# Altium integrated library NSC LDO.IntLib: 1229 symbols (part 21 of 28)
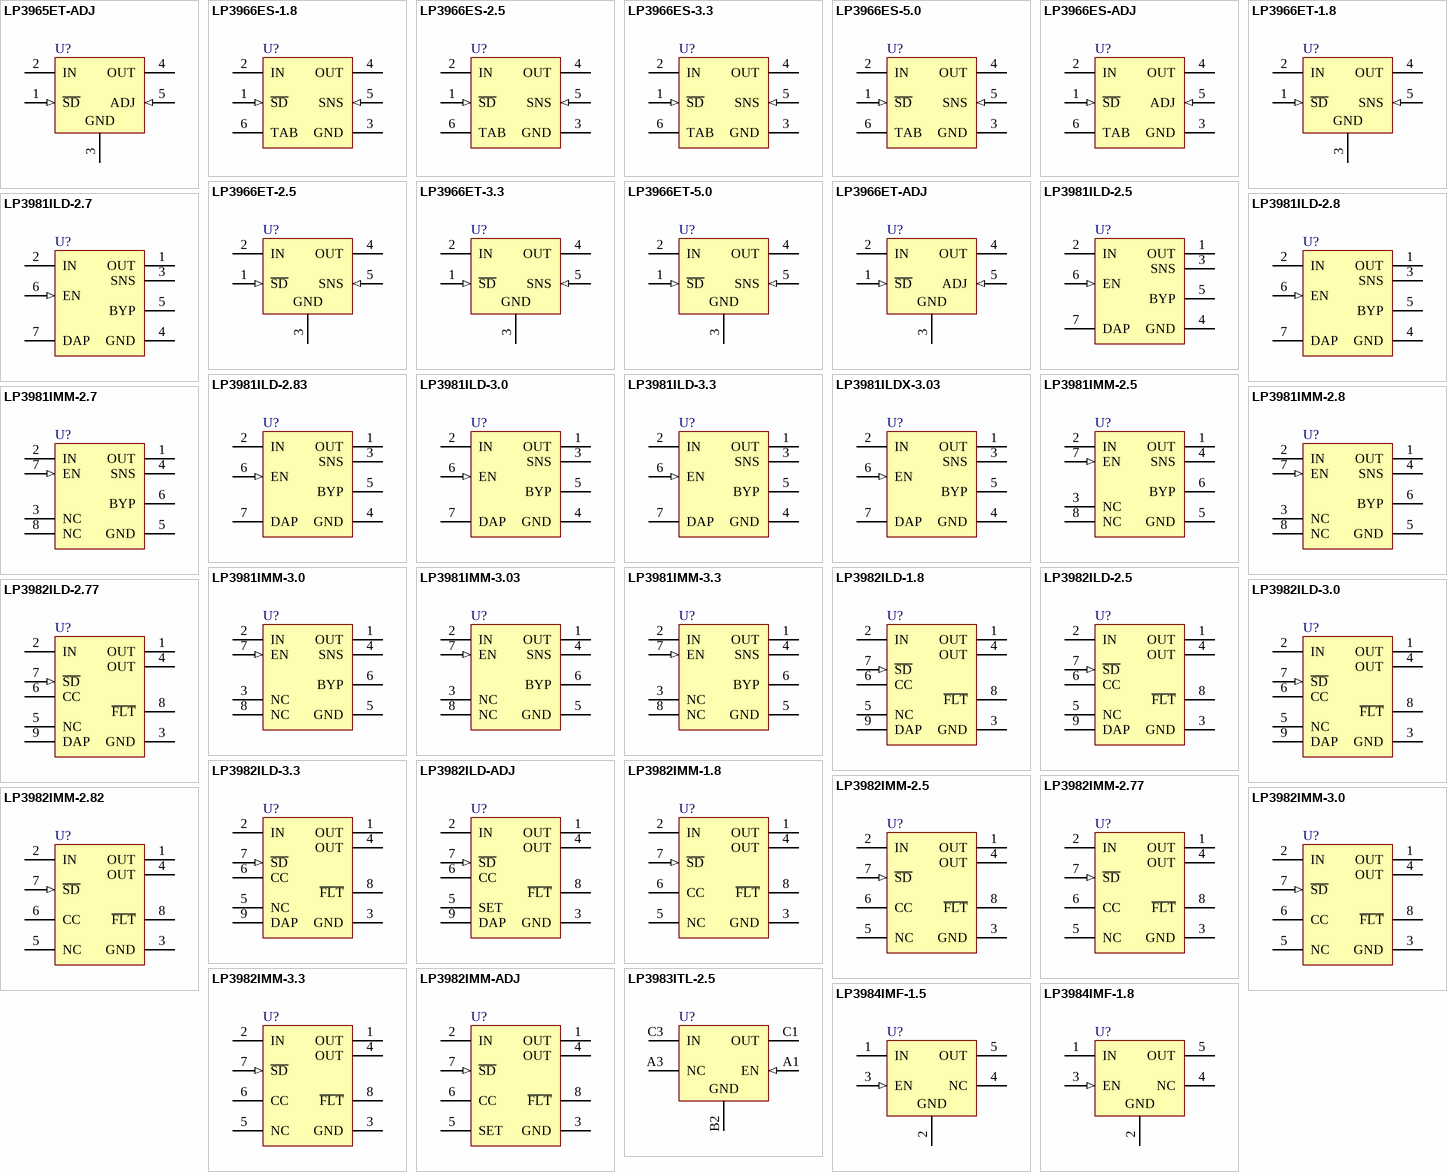
[diagram p51: symbols LP3965ET-ADJ to LP3984IMF-1.8]

## LP3981ILD-3.0
designator U?
Micropower, 300mA Ultra Low-Dropout CMOS Voltage Regulator; PartNumber: LP3981ILD-3.0; Manufacturer: National Semiconductor; CompType: LDO IC; PackageTopMarking: ZXYTT*L017B; PowerWise: N; Published: 4-Dec-2008; DatasheetVersion: Apr-2005; PackageVersion: revB, Nov-2002; PackageReference: LDC06D; Publisher: Altium Limited; PackageDescription: LLP, Plastic, Dual, 3 x 4 x 0.75mm Body, 6 Lead, 0.8mm Pitch; RoHS: Y; PinCount: 6; DigiKeyPartNumber: LP3981ILD-3.0CT-ND; ComponentLink1Description: LP3981 Datasheet; ComponentLink1URL: http://www.national.com/ds/LP/LP3981.pdf; ComponentLink2Description: LP3981 Web Page; ComponentLink2URL: http://www.national.com/pf/LP/LP3981.html; ComponentLink3Description: LDC06D Package Page; ComponentLink3URL: http://www.national.com/packaging/folders/ldc06d.html
footprint LDC06D (PSON, 6-Leads, Body 3x4 mm, Pitch 0.8mm, NSC Recommended)
pins: 1 OUT (power), 2 IN (power), 3 SNS, 4 GND (power), 5 BYP, 6 EN (in), 7 DAP

## LP3981ILD-3.3
designator U?
Micropower, 300mA Ultra Low-Dropout CMOS Voltage Regulator; PartNumber: LP3981ILD-3.3; Manufacturer: National Semiconductor; CompType: LDO IC; PackageTopMarking: ZXYTT*LO1XB; PowerWise: N; Published: 4-Dec-2008; DatasheetVersion: Apr-2005; PackageVersion: revB, Nov-2002; PackageReference: LDC06D; Publisher: Altium Limited; PackageDescription: LLP, Plastic, Dual, 3 x 4 x 0.75mm Body, 6 Lead, 0.8mm Pitch; RoHS: O; PinCount: 6; DigiKeyPartNumber: LP3981ILD-3.3CT-ND; ComponentLink1Description: LP3981 Datasheet; ComponentLink1URL: http://www.national.com/ds/LP/LP3981.pdf; ComponentLink2Description: LP3981 Web Page; ComponentLink2URL: http://www.national.com/pf/LP/LP3981.html; ComponentLink3Description: LDC06D Package Page; ComponentLink3URL: http://www.national.com/packaging/folders/ldc06d.html
footprint LDC06D (PSON, 6-Leads, Body 3x4 mm, Pitch 0.8mm, NSC Recommended)
pins: 1 OUT (power), 2 IN (power), 3 SNS, 4 GND (power), 5 BYP, 6 EN (in), 7 DAP

## LP3981ILDX-3.03
designator U?
Micropower, 300mA Ultra Low-Dropout CMOS Voltage Regulator; PartNumber: LP3981ILDX-3.03; Manufacturer: National Semiconductor; CompType: LDO IC; PackageTopMarking: ZXYTT*LO1YB; PowerWise: N; Published: 29-May-2009; DatasheetVersion: Apr-2005; PackageVersion: revB, Nov-2002; PackageReference: LDC06D; Publisher: Altium Limited; PackageDescription: LLP, Plastic, Dual, 3 x 4 x 0.75mm Body, 6 Lead, 0.8mm Pitch; RoHS: Y; PinCount: 6; DigiKeyPartNumber: LP3981ILDX-3.03-ND; ComponentLink1Description: LP3981 Datasheet; ComponentLink1URL: http://www.national.com/ds/LP/LP3981.pdf; ComponentLink2Description: LP3981 Web Page; ComponentLink2URL: http://www.national.com/pf/LP/LP3981.html; ComponentLink3Description: LDC06D Package Page; ComponentLink3URL: http://www.national.com/packaging/folders/ldc06d.html
footprint LDC06D (PSON, 6-Leads, Body 3x4 mm, Pitch 0.8mm, NSC Recommended)
pins: 1 OUT (power), 2 IN (power), 3 SNS, 4 GND (power), 5 BYP, 6 EN (in), 7 DAP

## LP3981IMM-2.5
designator U?
Micropower, 300mA Ultra Low-Dropout CMOS Voltage Regulator; PartNumber: LP3981IMM-2.5; Manufacturer: National Semiconductor; CompType: LDO IC; PackageTopMarking: ZXTT*LFKB; PowerWise: N; Published: 4-Dec-2008; DatasheetVersion: Apr-2005; PackageVersion: revF, Apr-2008; PackageReference: MUA08A; Publisher: Altium Limited; PackageDescription: MINI SOIC, .118 x .118 x .034in, 8 Lead, .0256in Pitch; RoHS: O; PinCount: 8; DigiKeyPartNumber: LP3981IMM-2.5CT-ND; Code_JEDEC: MO-187-AA; ComponentLink1Description: LP3981 Datasheet; ComponentLink1URL: http://www.national.com/ds/LP/LP3981.pdf; ComponentLink2Description: LP3981 Web Page; ComponentLink2URL: http://www.national.com/pf/LP/LP3981.html; ComponentLink3Description: MUA08A Package Page; ComponentLink3URL: http://www.national.com/packaging/folders/mua08a.html
footprint MUA08A_N (TSOP, 8-Leads, Body 3x3mm, Pitch 0.65mm, IPC Medium Density)
footprint MUA08A_L (TSOP, 8-Leads, Body 3x3mm, Pitch 0.65mm, IPC High Density)
footprint MUA08A_M (TSOP, 8-Leads, Body 3x3mm, Pitch 0.65mm, IPC Low Density)
pins: 1 OUT (power), 2 IN (power), 3 NC, 4 SNS, 5 GND (power), 6 BYP, 7 EN (in), 8 NC

## LP3981IMM-2.7
designator U?
Micropower, 300mA Ultra Low-Dropout CMOS Voltage Regulator; PartNumber: LP3981IMM-2.7; Manufacturer: National Semiconductor; CompType: LDO IC; PackageTopMarking: ZXTT*LFLB; PowerWise: N; Published: 4-Dec-2008; DatasheetVersion: Apr-2005; PackageVersion: revF, Apr-2008; PackageReference: MUA08A; Publisher: Altium Limited; PackageDescription: MINI SOIC, .118 x .118 x .034in, 8 Lead, .0256in Pitch; RoHS: Y; PinCount: 8; DigiKeyPartNumber: LP3981IMM-2.7CT-ND; Code_JEDEC: MO-187-AA; ComponentLink1Description: LP3981 Datasheet; ComponentLink1URL: http://www.national.com/ds/LP/LP3981.pdf; ComponentLink2Description: LP3981 Web Page; ComponentLink2URL: http://www.national.com/pf/LP/LP3981.html; ComponentLink3Description: MUA08A Package Page; ComponentLink3URL: http://www.national.com/packaging/folders/mua08a.html
footprint MUA08A_N (TSOP, 8-Leads, Body 3x3mm, Pitch 0.65mm, IPC Medium Density)
footprint MUA08A_L (TSOP, 8-Leads, Body 3x3mm, Pitch 0.65mm, IPC High Density)
footprint MUA08A_M (TSOP, 8-Leads, Body 3x3mm, Pitch 0.65mm, IPC Low Density)
pins: 1 OUT (power), 2 IN (power), 3 NC, 4 SNS, 5 GND (power), 6 BYP, 7 EN (in), 8 NC

## LP3981IMM-2.8
designator U?
Micropower, 300mA Ultra Low-Dropout CMOS Voltage Regulator; PartNumber: LP3981IMM-2.8; Manufacturer: National Semiconductor; CompType: LDO IC; PackageTopMarking: ZXTT*LFTB; PowerWise: N; Published: 4-Dec-2008; DatasheetVersion: Apr-2005; PackageVersion: revF, Apr-2008; PackageReference: MUA08A; Publisher: Altium Limited; PackageDescription: MINI SOIC, .118 x .118 x .034in, 8 Lead, .0256in Pitch; RoHS: Y; PinCount: 8; DigiKeyPartNumber: LP3981IMM-2.83CT-ND; Code_JEDEC: MO-187-AA; ComponentLink1Description: LP3981 Datasheet; ComponentLink1URL: http://www.national.com/ds/LP/LP3981.pdf; ComponentLink2Description: LP3981 Web Page; ComponentLink2URL: http://www.national.com/pf/LP/LP3981.html; ComponentLink3Description: MUA08A Package Page; ComponentLink3URL: http://www.national.com/packaging/folders/mua08a.html
footprint MUA08A_N (TSOP, 8-Leads, Body 3x3mm, Pitch 0.65mm, IPC Medium Density)
footprint MUA08A_L (TSOP, 8-Leads, Body 3x3mm, Pitch 0.65mm, IPC High Density)
footprint MUA08A_M (TSOP, 8-Leads, Body 3x3mm, Pitch 0.65mm, IPC Low Density)
pins: 1 OUT (power), 2 IN (power), 3 NC, 4 SNS, 5 GND (power), 6 BYP, 7 EN (in), 8 NC

## LP3981IMM-3.0
designator U?
Micropower, 300mA Ultra Low-Dropout CMOS Voltage Regulator; PartNumber: LP3981IMM-3.0; Manufacturer: National Semiconductor; CompType: LDO IC; PackageTopMarking: ZXTT*LF3B; PowerWise: N; Published: 4-Dec-2008; DatasheetVersion: Apr-2005; PackageVersion: revF, Apr-2008; PackageReference: MUA08A; Publisher: Altium Limited; PackageDescription: MINI SOIC, .118 x .118 x .034in, 8 Lead, .0256in Pitch; RoHS: Y; PinCount: 8; DigiKeyPartNumber: LP3981IMM-3.03CT-ND; Code_JEDEC: MO-187-AA; ComponentLink1Description: LP3981 Datasheet; ComponentLink1URL: http://www.national.com/ds/LP/LP3981.pdf; ComponentLink2Description: LP3981 Web Page; ComponentLink2URL: http://www.national.com/pf/LP/LP3981.html; ComponentLink3Description: MUA08A Package Page; ComponentLink3URL: http://www.national.com/packaging/folders/mua08a.html
footprint MUA08A_N (TSOP, 8-Leads, Body 3x3mm, Pitch 0.65mm, IPC Medium Density)
footprint MUA08A_L (TSOP, 8-Leads, Body 3x3mm, Pitch 0.65mm, IPC High Density)
footprint MUA08A_M (TSOP, 8-Leads, Body 3x3mm, Pitch 0.65mm, IPC Low Density)
pins: 1 OUT (power), 2 IN (power), 3 NC, 4 SNS, 5 GND (power), 6 BYP, 7 EN (in), 8 NC

## LP3981IMM-3.03
designator U?
Micropower, 300mA Ultra Low-Dropout CMOS Voltage Regulator; PartNumber: LP3981IMM-3.03; Manufacturer: National Semiconductor; CompType: LDO IC; PackageTopMarking: ZXTT*LFPB; PowerWise: N; Published: 4-Dec-2008; DatasheetVersion: Apr-2005; PackageVersion: revF, Apr-2008; PackageReference: MUA08A; Publisher: Altium Limited; PackageDescription: MINI SOIC, .118 x .118 x .034in, 8 Lead, .0256in Pitch; RoHS: O; PinCount: 8; DigiKeyPartNumber: LP3981IMM-3.03CT-ND; Code_JEDEC: MO-187-AA; ComponentLink1Description: LP3981 Datasheet; ComponentLink1URL: http://www.national.com/ds/LP/LP3981.pdf; ComponentLink2Description: LP3981 Web Page; ComponentLink2URL: http://www.national.com/pf/LP/LP3981.html; ComponentLink3Description: MUA08A Package Page; ComponentLink3URL: http://www.national.com/packaging/folders/mua08a.html
footprint MUA08A_N (TSOP, 8-Leads, Body 3x3mm, Pitch 0.65mm, IPC Medium Density)
footprint MUA08A_L (TSOP, 8-Leads, Body 3x3mm, Pitch 0.65mm, IPC High Density)
footprint MUA08A_M (TSOP, 8-Leads, Body 3x3mm, Pitch 0.65mm, IPC Low Density)
pins: 1 OUT (power), 2 IN (power), 3 NC, 4 SNS, 5 GND (power), 6 BYP, 7 EN (in), 8 NC

## LP3981IMM-3.3
designator U?
Micropower, 300mA Ultra Low-Dropout CMOS Voltage Regulator; PartNumber: LP3981IMM-3.3; Manufacturer: National Semiconductor; CompType: LDO IC; PackageTopMarking: ZXTT*LFNB; PowerWise: N; Published: 4-Dec-2008; DatasheetVersion: Apr-2005; PackageVersion: revF, Apr-2008; PackageReference: MUA08A; Publisher: Altium Limited; PackageDescription: MINI SOIC, .118 x .118 x .034in, 8 Lead, .0256in Pitch; RoHS: O; PinCount: 8; DigiKeyPartNumber: LP3981IMM-3.3CT-ND; Code_JEDEC: MO-187-AA; ComponentLink1Description: LP3981 Datasheet; ComponentLink1URL: http://www.national.com/ds/LP/LP3981.pdf; ComponentLink2Description: LP3981 Web Page; ComponentLink2URL: http://www.national.com/pf/LP/LP3981.html; ComponentLink3Description: MUA08A Package Page; ComponentLink3URL: http://www.national.com/packaging/folders/mua08a.html
footprint MUA08A_N (TSOP, 8-Leads, Body 3x3mm, Pitch 0.65mm, IPC Medium Density)
footprint MUA08A_L (TSOP, 8-Leads, Body 3x3mm, Pitch 0.65mm, IPC High Density)
footprint MUA08A_M (TSOP, 8-Leads, Body 3x3mm, Pitch 0.65mm, IPC Low Density)
pins: 1 OUT (power), 2 IN (power), 3 NC, 4 SNS, 5 GND (power), 6 BYP, 7 EN (in), 8 NC

## LP3982ILD-1.8
designator U?
Micropower, Ultra Low-Dropout, Low-Noise, 300mA CMOS Regulator; PartNumber: LP3982ILD-1.8; Manufacturer: National Semiconductor; CompType: LDO IC; PackageTopMarking: XYTT*LNB; PowerWise: N; Published: 4-Dec-2008; DatasheetVersion: Mar-2006; PackageVersion: revB, Jun-2003; PackageReference: LDA08C; Publisher: Altium Limited; PackageDescription: LLP, Plastic, Dual, 2.5 x 3 x 0.75mm, 8 Lead, 0.5mm Pitch; RoHS: O; PinCount: 8; DigiKeyPartNumber: LP3982ILD-1.8CT-ND; Code_JEDEC: MO-229-WDED; ComponentLink1Description: LP3982 Datasheet; ComponentLink1URL: http://www.national.com/ds/LP/LP3982.pdf; ComponentLink2Description: LP3982 Web Page; ComponentLink2URL: http://www.national.com/pf/LP/LP3982.html; ComponentLink3Description: LDA08C Package Page; ComponentLink3URL: http://www.national.com/packaging/folders/lda08c.html
footprint LDA08C (PSON, 8-Leads, Body 2.5x3mm, Pitch 0.5mm, NSC Recommended)
pins: 1 OUT (power), 2 IN (power), 3 GND (power), 4 OUT (power), 5 NC, 6 CC, 7 ~{SD} (in), 8 ~{FLT} (oc), 9 DAP (power)

## LP3982ILD-2.5
designator U?
Micropower, Ultra Low-Dropout, Low-Noise, 300mA CMOS Regulator; PartNumber: LP3982ILD-2.5; Manufacturer: National Semiconductor; CompType: LDO IC; PackageTopMarking: XYTT*LPB; PowerWise: N; Published: 4-Dec-2008; DatasheetVersion: Mar-2006; PackageVersion: revB, Jun-2003; PackageReference: LDA08C; Publisher: Altium Limited; PackageDescription: LLP, Plastic, Dual, 2.5 x 3 x 0.75mm, 8 Lead, 0.5mm Pitch; RoHS: Y; PinCount: 8; DigiKeyPartNumber: LP3982ILD-2.5CT-ND; Code_JEDEC: MO-229-WDED; ComponentLink1Description: LP3982 Datasheet; ComponentLink1URL: http://www.national.com/ds/LP/LP3982.pdf; ComponentLink2Description: LP3982 Web Page; ComponentLink2URL: http://www.national.com/pf/LP/LP3982.html; ComponentLink3Description: LDA08C Package Page; ComponentLink3URL: http://www.national.com/packaging/folders/lda08c.html
footprint LDA08C (PSON, 8-Leads, Body 2.5x3mm, Pitch 0.5mm, NSC Recommended)
pins: 1 OUT (power), 2 IN (power), 3 GND (power), 4 OUT (power), 5 NC, 6 CC, 7 ~{SD} (in), 8 ~{FLT} (oc), 9 DAP (power)

## LP3982ILD-2.77
designator U?
Micropower, Ultra Low-Dropout, Low-Noise, 300mA CMOS Regulator; PartNumber: LP3982ILD-2.77; Manufacturer: National Semiconductor; CompType: LDO IC; PackageTopMarking: XYTT*LRB; Published: 4-Dec-2008; DatasheetVersion: Mar-2006; PackageVersion: revB, Jun-2003; PackageReference: LDA08C; Publisher: Altium Limited; PackageDescription: LLP, Plastic, Dual, 2.5 x 3 x 0.75mm, 8 Lead, 0.5mm Pitch; RoHS: Y; PinCount: 8; DigiKeyPartNumber: LP3982ILD-2.77CT-ND; Code_JEDEC: MO-229-WDED; ComponentLink1Description: LP3982 Datasheet; ComponentLink1URL: http://www.national.com/ds/LP/LP3982.pdf; ComponentLink2Description: LP3982 Web Page; ComponentLink2URL: http://www.national.com/pf/LP/LP3982.html; ComponentLink3Description: LDA08C Package Page; ComponentLink3URL: http://www.national.com/packaging/folders/lda08c.html
footprint LDA08C (PSON, 8-Leads, Body 2.5x3mm, Pitch 0.5mm, NSC Recommended)
pins: 1 OUT (power), 2 IN (power), 3 GND (power), 4 OUT (power), 5 NC, 6 CC, 7 ~{SD} (in), 8 ~{FLT} (oc), 9 DAP (power)

## LP3982ILD-3.0
designator U?
Micropower, Ultra Low-Dropout, Low-Noise, 300mA CMOS Regulator; PartNumber: LP3982ILD-3.0; Manufacturer: National Semiconductor; CompType: LDO IC; PackageTopMarking: XYTT*LTB; PowerWise: N; Published: 4-Dec-2008; DatasheetVersion: Mar-2006; PackageVersion: revB, Jun-2003; PackageReference: LDA08C; Publisher: Altium Limited; PackageDescription: LLP, Plastic, Dual, 2.5 x 3 x 0.75mm, 8 Lead, 0.5mm Pitch; RoHS: Y; PinCount: 8; DigiKeyPartNumber: LP3982ILD-3.0CT-ND; Code_JEDEC: MO-229-WDED; ComponentLink1Description: LP3982 Datasheet; ComponentLink1URL: http://www.national.com/ds/LP/LP3982.pdf; ComponentLink2Description: LP3982 Web Page; ComponentLink2URL: http://www.national.com/pf/LP/LP3982.html; ComponentLink3Description: LDA08C Package Page; ComponentLink3URL: http://www.national.com/packaging/folders/lda08c.html
footprint LDA08C (PSON, 8-Leads, Body 2.5x3mm, Pitch 0.5mm, NSC Recommended)
pins: 1 OUT (power), 2 IN (power), 3 GND (power), 4 OUT (power), 5 NC, 6 CC, 7 ~{SD} (in), 8 ~{FLT} (oc), 9 DAP (power)

## LP3982ILD-3.3
designator U?
Micropower, Ultra Low-Dropout, Low-Noise, 300mA CMOS Regulator; PartNumber: LP3982ILD-3.3; Manufacturer: National Semiconductor; CompType: LDO IC; PackageTopMarking: XYTT*LUB; PowerWise: N; Published: 4-Dec-2008; DatasheetVersion: Mar-2006; PackageVersion: revB, Jun-2003; PackageReference: LDA08C; Publisher: Altium Limited; PackageDescription: LLP, Plastic, Dual, 2.5 x 3 x 0.75mm, 8 Lead, 0.5mm Pitch; RoHS: Y; PinCount: 8; DigiKeyPartNumber: LP3982ILD-3.3CT-ND; Code_JEDEC: MO-229-WDED; ComponentLink1Description: LP3982 Datasheet; ComponentLink1URL: http://www.national.com/ds/LP/LP3982.pdf; ComponentLink2Description: LP3982 Web Page; ComponentLink2URL: http://www.national.com/pf/LP/LP3982.html; ComponentLink3Description: LDA08C Package Page; ComponentLink3URL: http://www.national.com/packaging/folders/lda08c.html
footprint LDA08C (PSON, 8-Leads, Body 2.5x3mm, Pitch 0.5mm, NSC Recommended)
pins: 1 OUT (power), 2 IN (power), 3 GND (power), 4 OUT (power), 5 NC, 6 CC, 7 ~{SD} (in), 8 ~{FLT} (oc), 9 DAP (power)

## LP3982ILD-ADJ
designator U?
Micropower, Ultra Low-Dropout, Low-Noise, 300mA CMOS Regulator; PartNumber: LP3982ILD-ADJ; Manufacturer: National Semiconductor; CompType: LDO IC; PackageTopMarking: XYTT*LVB; PowerWise: N; Published: 4-Dec-2008; DatasheetVersion: Mar-2006; PackageVersion: revB, Jun-2003; PackageReference: LDA08C; Publisher: Altium Limited; PackageDescription: LLP, Plastic, Dual, 2.5 x 3 x 0.75mm, 8 Lead, 0.5mm Pitch; RoHS: O; PinCount: 8; DigiKeyPartNumber: LP3982ILD-ADJCT-ND; Code_JEDEC: MO-229-WDED; ComponentLink1Description: LP3982 Datasheet; ComponentLink1URL: http://www.national.com/ds/LP/LP3982.pdf; ComponentLink2Description: LP3982 Web Page; ComponentLink2URL: http://www.national.com/pf/LP/LP3982.html; ComponentLink3Description: LDA08C Package Page; ComponentLink3URL: http://www.national.com/packaging/folders/lda08c.html
footprint LDA08C (PSON, 8-Leads, Body 2.5x3mm, Pitch 0.5mm, NSC Recommended)
pins: 1 OUT (power), 2 IN (power), 3 GND (power), 4 OUT (power), 5 SET, 6 CC, 7 ~{SD} (in), 8 ~{FLT} (oc), 9 DAP (power)

## LP3982IMM-1.8
designator U?
Micropower, Ultra Low-Dropout, Low-Noise, 300mA CMOS Regulator; PartNumber: LP3982IMM-1.8; Manufacturer: National Semiconductor; CompType: LDO IC; PackageTopMarking: ZXTT*LENB; PowerWise: N; Published: 4-Dec-2008; DatasheetVersion: Mar-2006; PackageVersion: revF, Apr-2008; PackageReference: MUA08A; Publisher: Altium Limited; PackageDescription: MINI SOIC, .118 x .118 x .034in, 8 Lead, .0256in Pitch; RoHS: O; PinCount: 8; DigiKeyPartNumber: LP3982IMM-1.8CT-ND; Code_JEDEC: MO-187-AA; ComponentLink1Description: LP3982 Datasheet; ComponentLink1URL: http://www.national.com/ds/LP/LP3982.pdf; ComponentLink2Description: LP3982 Web Page; ComponentLink2URL: http://www.national.com/pf/LP/LP3982.html; ComponentLink3Description: MUA08A Package Page; ComponentLink3URL: http://www.national.com/packaging/folders/mua08a.html
footprint MUA08A_N (TSOP, 8-Leads, Body 3x3mm, Pitch 0.65mm, IPC Medium Density)
footprint MUA08A_L (TSOP, 8-Leads, Body 3x3mm, Pitch 0.65mm, IPC High Density)
footprint MUA08A_M (TSOP, 8-Leads, Body 3x3mm, Pitch 0.65mm, IPC Low Density)
pins: 1 OUT (power), 2 IN (power), 3 GND (power), 4 OUT (power), 5 NC, 6 CC, 7 ~{SD} (in), 8 ~{FLT} (oc)

## LP3982IMM-2.5
designator U?
Micropower, Ultra Low-Dropout, Low-Noise, 300mA CMOS Regulator; PartNumber: LP3982IMM-2.5; Manufacturer: National Semiconductor; CompType: LDO IC; PackageTopMarking: ZXTT*LEPB; PowerWise: N; Published: 4-Dec-2008; DatasheetVersion: Mar-2006; PackageVersion: revF, Apr-2008; PackageReference: MUA08A; Publisher: Altium Limited; PackageDescription: MINI SOIC, .118 x .118 x .034in, 8 Lead, .0256in Pitch; RoHS: Y; PinCount: 8; DigiKeyPartNumber: LP3982IMM-2.5CT-ND; Code_JEDEC: MO-187-AA; ComponentLink1Description: LP3982 Datasheet; ComponentLink1URL: http://www.national.com/ds/LP/LP3982.pdf; ComponentLink2Description: LP3982 Web Page; ComponentLink2URL: http://www.national.com/pf/LP/LP3982.html; ComponentLink3Description: MUA08A Package Page; ComponentLink3URL: http://www.national.com/packaging/folders/mua08a.html
footprint MUA08A_N (TSOP, 8-Leads, Body 3x3mm, Pitch 0.65mm, IPC Medium Density)
footprint MUA08A_L (TSOP, 8-Leads, Body 3x3mm, Pitch 0.65mm, IPC High Density)
footprint MUA08A_M (TSOP, 8-Leads, Body 3x3mm, Pitch 0.65mm, IPC Low Density)
pins: 1 OUT (power), 2 IN (power), 3 GND (power), 4 OUT (power), 5 NC, 6 CC, 7 ~{SD} (in), 8 ~{FLT} (oc)

## LP3982IMM-2.77
designator U?
Micropower, Ultra Low-Dropout, Low-Noise, 300mA CMOS Regulator; PartNumber: LP3982IMM-2.77; Manufacturer: National Semiconductor; CompType: LDO IC; PackageTopMarking: ZXTT*LERB; Published: 4-Dec-2008; DatasheetVersion: Mar-2006; PackageVersion: revF, Apr-2008; PackageReference: MUA08A; Publisher: Altium Limited; PackageDescription: MINI SOIC, .118 x .118 x .034in, 8 Lead, .0256in Pitch; RoHS: Y; PinCount: 8; DigiKeyPartNumber: LP3982IMM-2.77CT-ND; Code_JEDEC: MO-187-AA; ComponentLink1Description: LP3982 Datasheet; ComponentLink1URL: http://www.national.com/ds/LP/LP3982.pdf; ComponentLink2Description: LP3982 Web Page; ComponentLink2URL: http://www.national.com/pf/LP/LP3982.html; ComponentLink3Description: MUA08A Package Page; ComponentLink3URL: http://www.national.com/packaging/folders/mua08a.html
footprint MUA08A_N (TSOP, 8-Leads, Body 3x3mm, Pitch 0.65mm, IPC Medium Density)
footprint MUA08A_L (TSOP, 8-Leads, Body 3x3mm, Pitch 0.65mm, IPC High Density)
footprint MUA08A_M (TSOP, 8-Leads, Body 3x3mm, Pitch 0.65mm, IPC Low Density)
pins: 1 OUT (power), 2 IN (power), 3 GND (power), 4 OUT (power), 5 NC, 6 CC, 7 ~{SD} (in), 8 ~{FLT} (oc)

## LP3982IMM-2.82
designator U?
Micropower, Ultra Low-Dropout, Low-Noise, 300mA CMOS Regulator; PartNumber: LP3982IMM-2.82; Manufacturer: National Semiconductor; CompType: LDO IC; PackageTopMarking: ZXTT*LESB; Published: 4-Dec-2008; DatasheetVersion: Mar-2006; PackageVersion: revF, Apr-2008; PackageReference: MUA08A; Publisher: Altium Limited; PackageDescription: MINI SOIC, .118 x .118 x .034in, 8 Lead, .0256in Pitch; RoHS: Y; PinCount: 8; DigiKeyPartNumber: LP3982IMM-2.82CT-ND; Code_JEDEC: MO-187-AA; ComponentLink1Description: LP3982 Datasheet; ComponentLink1URL: http://www.national.com/ds/LP/LP3982.pdf; ComponentLink2Description: LP3982 Web Page; ComponentLink2URL: http://www.national.com/pf/LP/LP3982.html; ComponentLink3Description: MUA08A Package Page; ComponentLink3URL: http://www.national.com/packaging/folders/mua08a.html
footprint MUA08A_N (TSOP, 8-Leads, Body 3x3mm, Pitch 0.65mm, IPC Medium Density)
footprint MUA08A_L (TSOP, 8-Leads, Body 3x3mm, Pitch 0.65mm, IPC High Density)
footprint MUA08A_M (TSOP, 8-Leads, Body 3x3mm, Pitch 0.65mm, IPC Low Density)
pins: 1 OUT (power), 2 IN (power), 3 GND (power), 4 OUT (power), 5 NC, 6 CC, 7 ~{SD} (in), 8 ~{FLT} (oc)

## LP3982IMM-3.0
designator U?
Micropower, Ultra Low-Dropout, Low-Noise, 300mA CMOS Regulator; PartNumber: LP3982IMM-3.0; Manufacturer: National Semiconductor; CompType: LDO IC; PackageTopMarking: ZXTT*LETB; PowerWise: N; Published: 4-Dec-2008; DatasheetVersion: Mar-2006; PackageVersion: revF, Apr-2008; PackageReference: MUA08A; Publisher: Altium Limited; PackageDescription: MINI SOIC, .118 x .118 x .034in, 8 Lead, .0256in Pitch; RoHS: O; PinCount: 8; DigiKeyPartNumber: LP3982IMM-3.0CT-ND; Code_JEDEC: MO-187-AA; ComponentLink1Description: LP3982 Datasheet; ComponentLink1URL: http://www.national.com/ds/LP/LP3982.pdf; ComponentLink2Description: LP3982 Web Page; ComponentLink2URL: http://www.national.com/pf/LP/LP3982.html; ComponentLink3Description: MUA08A Package Page; ComponentLink3URL: http://www.national.com/packaging/folders/mua08a.html
footprint MUA08A_N (TSOP, 8-Leads, Body 3x3mm, Pitch 0.65mm, IPC Medium Density)
footprint MUA08A_L (TSOP, 8-Leads, Body 3x3mm, Pitch 0.65mm, IPC High Density)
footprint MUA08A_M (TSOP, 8-Leads, Body 3x3mm, Pitch 0.65mm, IPC Low Density)
pins: 1 OUT (power), 2 IN (power), 3 GND (power), 4 OUT (power), 5 NC, 6 CC, 7 ~{SD} (in), 8 ~{FLT} (oc)

## LP3982IMM-3.3
designator U?
Micropower, Ultra Low-Dropout, Low-Noise, 300mA CMOS Regulator; PartNumber: LP3982IMM-3.3; Manufacturer: National Semiconductor; CompType: LDO IC; PackageTopMarking: ZXTT*LEUB; PowerWise: N; Published: 4-Dec-2008; DatasheetVersion: Mar-2006; PackageVersion: revF, Apr-2008; PackageReference: MUA08A; Publisher: Altium Limited; PackageDescription: MINI SOIC, .118 x .118 x .034in, 8 Lead, .0256in Pitch; RoHS: O; PinCount: 8; DigiKeyPartNumber: LP3982IMM-3.3CT-ND; Code_JEDEC: MO-187-AA; ComponentLink1Description: LP3982 Datasheet; ComponentLink1URL: http://www.national.com/ds/LP/LP3982.pdf; ComponentLink2Description: LP3982 Web Page; ComponentLink2URL: http://www.national.com/pf/LP/LP3982.html; ComponentLink3Description: MUA08A Package Page; ComponentLink3URL: http://www.national.com/packaging/folders/mua08a.html
footprint MUA08A_N (TSOP, 8-Leads, Body 3x3mm, Pitch 0.65mm, IPC Medium Density)
footprint MUA08A_L (TSOP, 8-Leads, Body 3x3mm, Pitch 0.65mm, IPC High Density)
footprint MUA08A_M (TSOP, 8-Leads, Body 3x3mm, Pitch 0.65mm, IPC Low Density)
pins: 1 OUT (power), 2 IN (power), 3 GND (power), 4 OUT (power), 5 NC, 6 CC, 7 ~{SD} (in), 8 ~{FLT} (oc)

## LP3982IMM-ADJ
designator U?
Micropower, Ultra Low-Dropout, Low-Noise, 300mA CMOS Regulator; PartNumber: LP3982IMM-ADJ; Manufacturer: National Semiconductor; CompType: LDO IC; PackageTopMarking: ZXTT*LEVB; PowerWise: N; Published: 4-Dec-2008; DatasheetVersion: Mar-2006; PackageVersion: revF, Apr-2008; PackageReference: MUA08A; Publisher: Altium Limited; PackageDescription: MINI SOIC, .118 x .118 x .034in, 8 Lead, .0256in Pitch; RoHS: O; PinCount: 8; DigiKeyPartNumber: LP3982IMM-ADJCT-ND; Code_JEDEC: MO-187-AA; ComponentLink1Description: LP3982 Datasheet; ComponentLink1URL: http://www.national.com/ds/LP/LP3982.pdf; ComponentLink2Description: LP3982 Web Page; ComponentLink2URL: http://www.national.com/pf/LP/LP3982.html; ComponentLink3Description: MUA08A Package Page; ComponentLink3URL: http://www.national.com/packaging/folders/mua08a.html
footprint MUA08A_N (TSOP, 8-Leads, Body 3x3mm, Pitch 0.65mm, IPC Medium Density)
footprint MUA08A_L (TSOP, 8-Leads, Body 3x3mm, Pitch 0.65mm, IPC High Density)
footprint MUA08A_M (TSOP, 8-Leads, Body 3x3mm, Pitch 0.65mm, IPC Low Density)
pins: 1 OUT (power), 2 IN (power), 3 GND (power), 4 OUT (power), 5 SET, 6 CC, 7 ~{SD} (in), 8 ~{FLT} (oc)

## LP3983ITL-2.5
designator U?
Micropower, Low Quiescent Current, CMOS Voltage Regulator in micro SMD Package; PartNumber: LP3983ITL-2.5; Manufacturer: National Semiconductor; CompType: LDO IC; PackageTopMarking: XV*I 3; Published: 4-Dec-2008; DatasheetVersion: May-2005; PackageVersion: revC, Feb-2005; PackageReference: TLA05ADA; Publisher: Altium Limited; PackageDescription: Thin Micro SMD, 5 Bump (Large), 0.5mm Pitch; RoHS: Y; PinCount: 5; DigiKeyPartNumber: LP3983ITL-2.5CT-ND; ComponentLink1Description: LP3983 Datasheet; ComponentLink1URL: http://www.national.com/ds/LP/LP3983.pdf; ComponentLink2Description: LP3983 Web Page; ComponentLink2URL: http://www.national.com/pf/LP/LP3983.html; ComponentLink3Description: TLA05ADA Package Page; ComponentLink3URL: http://www.national.com/packaging/folders/tla05ada.html
footprint TLA05ADA (Micro SMD, 5-Leads, Body 1.45x1.01mm, Pitch 0.5mm, NSC Recommended)
pins: A1 EN (in), A3 NC, B2 GND (power), C1 OUT (power), C3 IN (power)

## LP3984IMF-1.5
designator U?
Micropower, 150mA Ultra Low-Dropout CMOS Voltage Regulator in Subminiature 4-I/O micro SMD Package; PartNumber: LP3984IMF-1.5; Manufacturer: National Semiconductor; CompType: LDO IC; PackageTopMarking: LEAB*XTT; PowerWise: N; Published: 4-Dec-2008; DatasheetVersion: May-2004; PackageVersion: revD, Aug-2008; PackageReference: MF05A; Publisher: Altium Limited; PackageDescription: Molded SOT-23, .115 x .063 x .040 in Body, 5 Lead, .0375 in Pitch; RoHS: O; PinCount: 5; DigiKeyPartNumber: LP3984IMF-1.5CT-ND; ComponentLink1Description: LP3984 Datasheet; ComponentLink1URL: http://www.national.com/ds/LP/LP3984.pdf; ComponentLink2Description: LP3984 Web Page; ComponentLink2URL: http://www.national.com/pf/LP/LP3984.html; ComponentLink3Description: MF05A Package Page; ComponentLink3URL: http://www.national.com/packaging/folders/mf05a.html
footprint MF05A_N (SOT23, 5-Leads, Body 2.9x1.6mm, Pitch 0.95mm, Lead Span 2.8mm, IPC Medium Density)
footprint MF05A_L (SOT23, 5-Leads, Body 2.9x1.6mm, Pitch 0.95mm, Lead Span 2.8mm, IPC High Density)
footprint MF05A_M (SOT23, 5-Leads, Body 2.9x1.6mm, Pitch 0.95mm, Lead Span 2.8mm, IPC Low Density)
pins: 1 IN (power), 2 GND (power), 3 EN (in), 4 NC, 5 OUT (power)

## LP3984IMF-1.8
designator U?
Micropower, 150mA Ultra Low-Dropout CMOS Voltage Regulator in Subminiature 4-I/O micro SMD Package; PartNumber: LP3984IMF-1.8; Manufacturer: National Semiconductor; CompType: LDO IC; PackageTopMarking: LEBB*XTT; PowerWise: N; Published: 4-Dec-2008; DatasheetVersion: May-2004; PackageVersion: revD, Aug-2008; PackageReference: MF05A; Publisher: Altium Limited; PackageDescription: Molded SOT-23, .115 x .063 x .040 in Body, 5 Lead, .0375 in Pitch; RoHS: O; PinCount: 5; DigiKeyPartNumber: LP3984IMF-1.8CT-ND; ComponentLink1Description: LP3984 Datasheet; ComponentLink1URL: http://www.national.com/ds/LP/LP3984.pdf; ComponentLink2Description: LP3984 Web Page; ComponentLink2URL: http://www.national.com/pf/LP/LP3984.html; ComponentLink3Description: MF05A Package Page; ComponentLink3URL: http://www.national.com/packaging/folders/mf05a.html
footprint MF05A_N (SOT23, 5-Leads, Body 2.9x1.6mm, Pitch 0.95mm, Lead Span 2.8mm, IPC Medium Density)
footprint MF05A_L (SOT23, 5-Leads, Body 2.9x1.6mm, Pitch 0.95mm, Lead Span 2.8mm, IPC High Density)
footprint MF05A_M (SOT23, 5-Leads, Body 2.9x1.6mm, Pitch 0.95mm, Lead Span 2.8mm, IPC Low Density)
pins: 1 IN (power), 2 GND (power), 3 EN (in), 4 NC, 5 OUT (power)

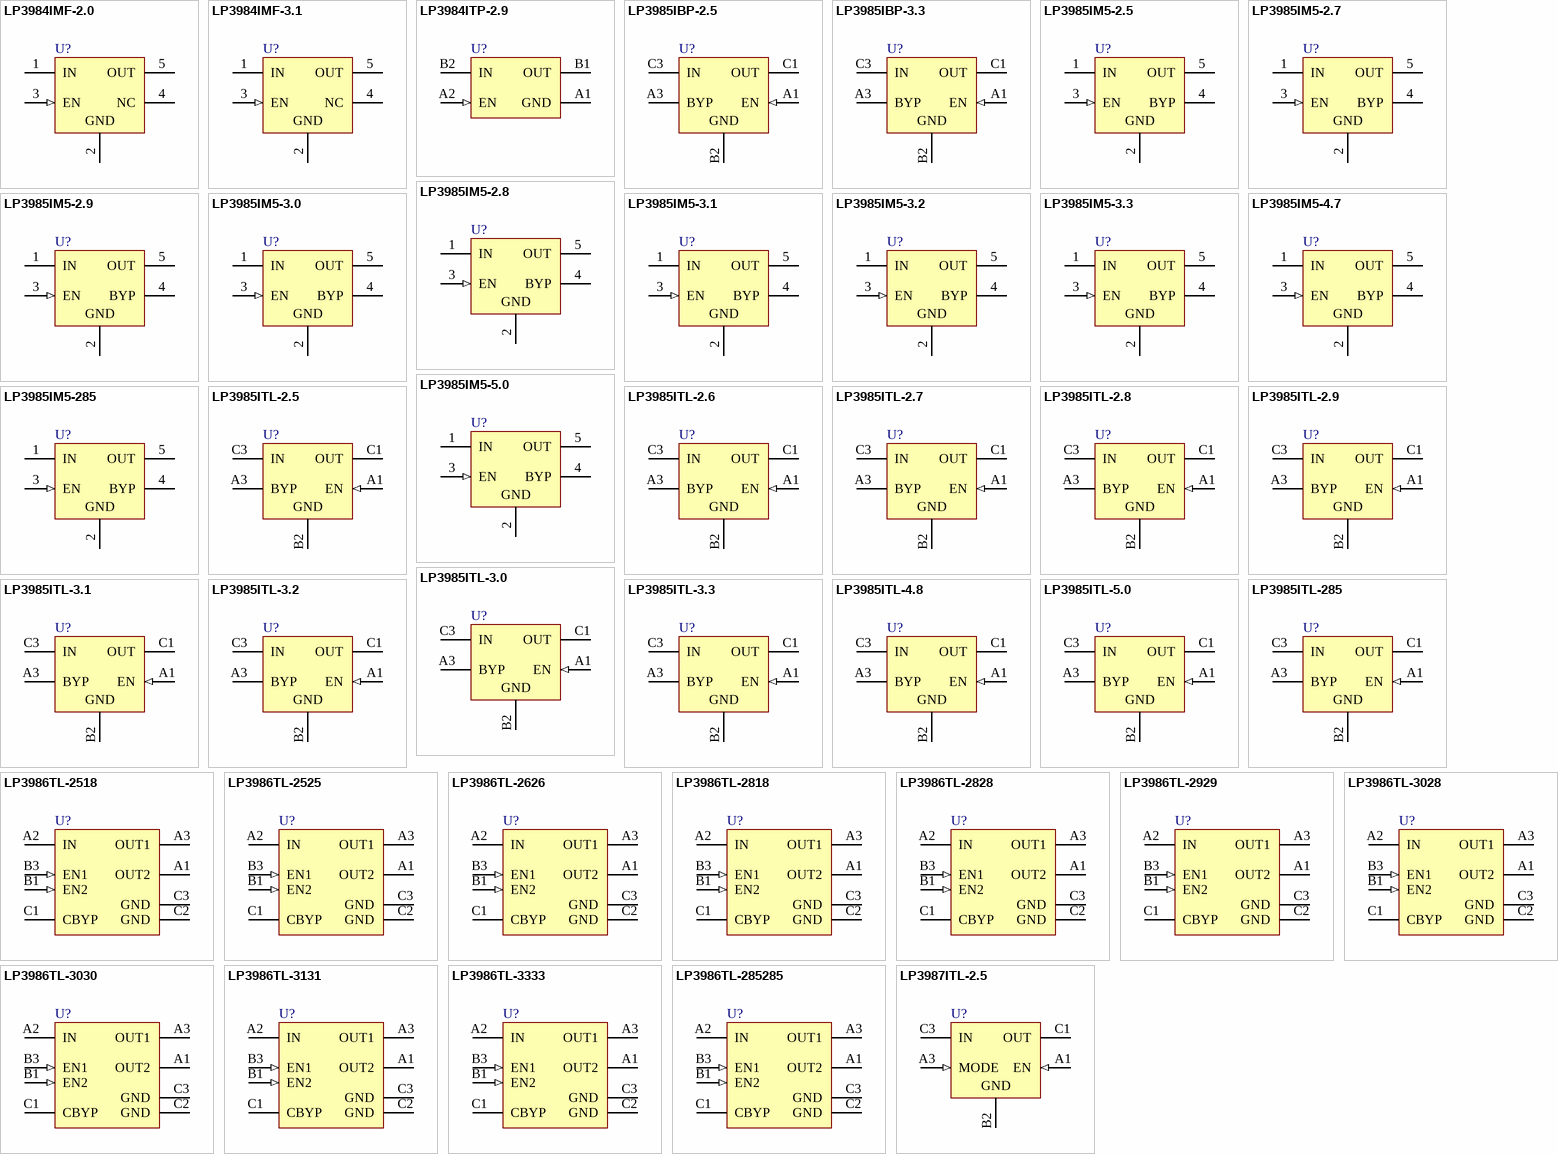
[diagram p23: symbols LP3984IMF-2.0 to LP3987ITL-2.5]

## LP3984IMF-2.0
designator U?
Micropower, 150mA Ultra Low-Dropout CMOS Voltage Regulator in Subminiature 4-I/O micro SMD Package; PartNumber: LP3984IMF-2.0; Manufacturer: National Semiconductor; CompType: LDO IC; PackageTopMarking: LECB*XTT; Published: 4-Dec-2008; DatasheetVersion: May-2004; PackageVersion: revD, Aug-2008; PackageReference: MF05A; Publisher: Altium Limited; PackageDescription: Molded SOT-23, .115 x .063 x .040 in Body, 5 Lead, .0375 in Pitch; RoHS: Y; PinCount: 5; DigiKeyPartNumber: LP3984IMF-2.0CT-ND; ComponentLink1Description: LP3984 Datasheet; ComponentLink1URL: http://www.national.com/ds/LP/LP3984.pdf; ComponentLink2Description: LP3984 Web Page; ComponentLink2URL: http://www.national.com/pf/LP/LP3984.html; ComponentLink3Description: MF05A Package Page; ComponentLink3URL: http://www.national.com/packaging/folders/mf05a.html
footprint MF05A_N (SOT23, 5-Leads, Body 2.9x1.6mm, Pitch 0.95mm, Lead Span 2.8mm, IPC Medium Density)
footprint MF05A_L (SOT23, 5-Leads, Body 2.9x1.6mm, Pitch 0.95mm, Lead Span 2.8mm, IPC High Density)
footprint MF05A_M (SOT23, 5-Leads, Body 2.9x1.6mm, Pitch 0.95mm, Lead Span 2.8mm, IPC Low Density)
pins: 1 IN (power), 2 GND (power), 3 EN (in), 4 NC, 5 OUT (power)

## LP3984IMF-3.1
designator U?
Micropower, 150mA Ultra Low-Dropout CMOS Voltage Regulator in Subminiature 4-I/O micro SMD Package; PartNumber: LP3984IMF-3.1; Manufacturer: National Semiconductor; CompType: LDO IC; PackageTopMarking: LEDB*XTT; PowerWise: N; Published: 4-Dec-2008; DatasheetVersion: May-2004; PackageVersion: revD, Aug-2008; PackageReference: MF05A; Publisher: Altium Limited; PackageDescription: Molded SOT-23, .115 x .063 x .040 in Body, 5 Lead, .0375 in Pitch; RoHS: Y; PinCount: 5; DigiKeyPartNumber: LP3984IMF-3.1CT-ND; ComponentLink1Description: LP3984 Datasheet; ComponentLink1URL: http://www.national.com/ds/LP/LP3984.pdf; ComponentLink2Description: LP3984 Web Page; ComponentLink2URL: http://www.national.com/pf/LP/LP3984.html; ComponentLink3Description: MF05A Package Page; ComponentLink3URL: http://www.national.com/packaging/folders/mf05a.html
footprint MF05A_N (SOT23, 5-Leads, Body 2.9x1.6mm, Pitch 0.95mm, Lead Span 2.8mm, IPC Medium Density)
footprint MF05A_L (SOT23, 5-Leads, Body 2.9x1.6mm, Pitch 0.95mm, Lead Span 2.8mm, IPC High Density)
footprint MF05A_M (SOT23, 5-Leads, Body 2.9x1.6mm, Pitch 0.95mm, Lead Span 2.8mm, IPC Low Density)
pins: 1 IN (power), 2 GND (power), 3 EN (in), 4 NC, 5 OUT (power)

## LP3984ITP-2.9
designator U?
Micropower, 150mA Ultra Low-Dropout CMOS Voltage Regulator in Subminiature 4-I/O micro SMD Package; PartNumber: LP3984ITP-2.9; Manufacturer: National Semiconductor; CompType: LDO IC; PackageTopMarking: X*I; Published: 4-Dec-2008; DatasheetVersion: May-2004; PackageVersion: revA, Feb-2002; PackageReference: TPA04EJA; Publisher: Altium Limited; PackageDescription: Thin Micro SMD, 4 Bump, 0.5mm Pitch; RoHS: O; PinCount: 4; DigiKeyPartNumber: LP3984ITP-2.9CT-ND; Code_JEDEC: MO-211-BA; ComponentLink1Description: LP3984 Datasheet; ComponentLink1URL: http://www.national.com/ds/LP/LP3984.pdf; ComponentLink2Description: LP3984 Web Page; ComponentLink2URL: http://www.national.com/pf/LP/LP3984.html; ComponentLink3Description: TPA04EJA Package Page; ComponentLink3URL: http://www.national.com/packaging/folders/tpa04eja.html
footprint TPA04EJA (Micro SMD, 4-Leads, Body 0.98x0.88mm, Pitch 0.5mm, NSC Recommended)
pins: A1 GND (power), A2 EN (in), B1 OUT (power), B2 IN (power)

## LP3985IBP-2.5
designator U?
Micropower, 150mA Low-Noise Ultra Low-Dropout CMOS Voltage Regulator; PartNumber: LP3985IBP-2.5; Manufacturer: National Semiconductor; CompType: LDO IC; PackageTopMarking: XV*I; Published: 4-Dec-2008; DatasheetVersion: Aug-2005; PackageVersion: revC, Feb-2002; PackageReference: BPA05DNC; Publisher: Altium Limited; PackageDescription: Micro SMD, 5 Bump, 0.5mm Pitch; RoHS: N; PinCount: 5; DigiKeyPartNumber: LP3985IBP-2.5CT-ND; ComponentLink1Description: LP3985 Datasheet; ComponentLink1URL: http://www.national.com/ds/LP/LP3985.pdf; ComponentLink2Description: LP3985 Web Page; ComponentLink2URL: http://www.national.com/pf/LP/LP3985.html; ComponentLink3Description: BPA05DNC Package Page; ComponentLink3URL: http://www.national.com/packaging/folders/bpa05dnc.html
footprint BPA05DNC (Micro SMD, 5-Leads, Body 1.41x0.85mm, Pitch 0.5mm, NSC Recommended)
pins: A1 EN (in), A3 BYP, B2 GND (power), C1 OUT (power), C3 IN (power)

## LP3985IBP-3.3
designator U?
Micropower, 150mA Low-Noise Ultra Low-Dropout CMOS Voltage Regulator; PartNumber: LP3985IBP-3.3; Manufacturer: National Semiconductor; CompType: LDO IC; PackageTopMarking: XV*I; Published: 4-Dec-2008; DatasheetVersion: Aug-2005; PackageVersion: revC, Feb-2002; PackageReference: BPA05DNC; Publisher: Altium Limited; PackageDescription: Micro SMD, 5 Bump, 0.5mm Pitch; RoHS: N; PinCount: 5; DigiKeyPartNumber: LP3985IBP-3.3CT-ND; ComponentLink1Description: LP3985 Datasheet; ComponentLink1URL: http://www.national.com/ds/LP/LP3985.pdf; ComponentLink2Description: LP3985 Web Page; ComponentLink2URL: http://www.national.com/pf/LP/LP3985.html; ComponentLink3Description: BPA05DNC Package Page; ComponentLink3URL: http://www.national.com/packaging/folders/bpa05dnc.html
footprint BPA05DNC (Micro SMD, 5-Leads, Body 1.41x0.85mm, Pitch 0.5mm, NSC Recommended)
pins: A1 EN (in), A3 BYP, B2 GND (power), C1 OUT (power), C3 IN (power)

## LP3985IM5-2.5
designator U?
Micropower, 150mA Low-Noise Ultra Low-Dropout CMOS Voltage Regulator; PartNumber: LP3985IM5-2.5; Manufacturer: National Semiconductor; CompType: LDO IC; PackageTopMarking: LCSB*XTT; PowerWise: N; Published: 4-Dec-2008; DatasheetVersion: Aug-2005; PackageVersion: revD, Aug-2008; PackageReference: MF05A; Publisher: Altium Limited; PackageDescription: Molded SOT-23, .115 x .063 x .040 in Body, 5 Lead, .0375 in Pitch; RoHS: O; PinCount: 5; DigiKeyPartNumber: LP3985IM5-2.5CT-ND; ComponentLink1Description: LP3985 Datasheet; ComponentLink1URL: http://www.national.com/ds/LP/LP3985.pdf; ComponentLink2Description: LP3985 Web Page; ComponentLink2URL: http://www.national.com/pf/LP/LP3985.html; ComponentLink3Description: MF05A Package Page; ComponentLink3URL: http://www.national.com/packaging/folders/mf05a.html
footprint MF05A_N (SOT23, 5-Leads, Body 2.9x1.6mm, Pitch 0.95mm, Lead Span 2.8mm, IPC Medium Density)
footprint MF05A_L (SOT23, 5-Leads, Body 2.9x1.6mm, Pitch 0.95mm, Lead Span 2.8mm, IPC High Density)
footprint MF05A_M (SOT23, 5-Leads, Body 2.9x1.6mm, Pitch 0.95mm, Lead Span 2.8mm, IPC Low Density)
pins: 1 IN (power), 2 GND (power), 3 EN (in), 4 BYP, 5 OUT (power)

## LP3985IM5-2.7
designator U?
Micropower, 150mA Low-Noise Ultra Low-Dropout CMOS Voltage Regulator; PartNumber: LP3985IM5-2.7; Manufacturer: National Semiconductor; CompType: LDO IC; PackageTopMarking: LCUB*XTT; PowerWise: N; Published: 29-May-2009; DatasheetVersion: Aug-2005; PackageVersion: revD, Aug-2008; PackageReference: MF05A; Publisher: Altium Limited; PackageDescription: Molded SOT-23, .115 x .063 x .040 in Body, 5 Lead, .0375 in Pitch; RoHS: Y; PinCount: 5; DigiKeyPartNumber: LP3985IM5-2.7CT-ND; ComponentLink1Description: LP3985 Datasheet; ComponentLink1URL: http://www.national.com/ds/LP/LP3985.pdf; ComponentLink2Description: LP3985 Web Page; ComponentLink2URL: http://www.national.com/pf/LP/LP3985.html; ComponentLink3Description: MF05A Package Page; ComponentLink3URL: http://www.national.com/packaging/folders/mf05a.html
footprint MF05A_N (SOT23, 5-Leads, Body 2.9x1.6mm, Pitch 0.95mm, Lead Span 2.8mm, IPC Medium Density)
footprint MF05A_L (SOT23, 5-Leads, Body 2.9x1.6mm, Pitch 0.95mm, Lead Span 2.8mm, IPC High Density)
footprint MF05A_M (SOT23, 5-Leads, Body 2.9x1.6mm, Pitch 0.95mm, Lead Span 2.8mm, IPC Low Density)
pins: 1 IN (power), 2 GND (power), 3 EN (in), 4 BYP, 5 OUT (power)

## LP3985IM5-2.8
designator U?
Micropower, 150mA Low-Noise Ultra Low-Dropout CMOS Voltage Regulator; PartNumber: LP3985IM5-2.8; Manufacturer: National Semiconductor; CompType: LDO IC; PackageTopMarking: LCJB*XTT; PowerWise: N; Published: 4-Dec-2008; DatasheetVersion: Aug-2005; PackageVersion: revD, Aug-2008; PackageReference: MF05A; Publisher: Altium Limited; PackageDescription: Molded SOT-23, .115 x .063 x .040 in Body, 5 Lead, .0375 in Pitch; RoHS: O; PinCount: 5; DigiKeyPartNumber: LP3985IM5-2.8CT-ND; ComponentLink1Description: LP3985 Datasheet; ComponentLink1URL: http://www.national.com/ds/LP/LP3985.pdf; ComponentLink2Description: LP3985 Web Page; ComponentLink2URL: http://www.national.com/pf/LP/LP3985.html; ComponentLink3Description: MF05A Package Page; ComponentLink3URL: http://www.national.com/packaging/folders/mf05a.html
footprint MF05A_N (SOT23, 5-Leads, Body 2.9x1.6mm, Pitch 0.95mm, Lead Span 2.8mm, IPC Medium Density)
footprint MF05A_L (SOT23, 5-Leads, Body 2.9x1.6mm, Pitch 0.95mm, Lead Span 2.8mm, IPC High Density)
footprint MF05A_M (SOT23, 5-Leads, Body 2.9x1.6mm, Pitch 0.95mm, Lead Span 2.8mm, IPC Low Density)
pins: 1 IN (power), 2 GND (power), 3 EN (in), 4 BYP, 5 OUT (power)

## LP3985IM5-2.9
designator U?
Micropower, 150mA Low-Noise Ultra Low-Dropout CMOS Voltage Regulator; PartNumber: LP3985IM5-2.9; Manufacturer: National Semiconductor; CompType: LDO IC; PackageTopMarking: LCYB*XTT; PowerWise: N; Published: 4-Dec-2008; DatasheetVersion: Aug-2005; PackageVersion: revD, Aug-2008; PackageReference: MF05A; Publisher: Altium Limited; PackageDescription: Molded SOT-23, .115 x .063 x .040 in Body, 5 Lead, .0375 in Pitch; RoHS: Y; PinCount: 5; DigiKeyPartNumber: LP3985IM5-2.9CT-ND; ComponentLink1Description: LP3985 Datasheet; ComponentLink1URL: http://www.national.com/ds/LP/LP3985.pdf; ComponentLink2Description: LP3985 Web Page; ComponentLink2URL: http://www.national.com/pf/LP/LP3985.html; ComponentLink3Description: MF05A Package Page; ComponentLink3URL: http://www.national.com/packaging/folders/mf05a.html
footprint MF05A_N (SOT23, 5-Leads, Body 2.9x1.6mm, Pitch 0.95mm, Lead Span 2.8mm, IPC Medium Density)
footprint MF05A_L (SOT23, 5-Leads, Body 2.9x1.6mm, Pitch 0.95mm, Lead Span 2.8mm, IPC High Density)
footprint MF05A_M (SOT23, 5-Leads, Body 2.9x1.6mm, Pitch 0.95mm, Lead Span 2.8mm, IPC Low Density)
pins: 1 IN (power), 2 GND (power), 3 EN (in), 4 BYP, 5 OUT (power)

## LP3985IM5-3.0
designator U?
Micropower, 150mA Low-Noise Ultra Low-Dropout CMOS Voltage Regulator; PartNumber: LP3985IM5-3.0; Manufacturer: National Semiconductor; CompType: LDO IC; PackageTopMarking: LCRB*XTT; PowerWise: N; Published: 4-Dec-2008; DatasheetVersion: Aug-2005; PackageVersion: revD, Aug-2008; PackageReference: MF05A; Publisher: Altium Limited; PackageDescription: Molded SOT-23, .115 x .063 x .040 in Body, 5 Lead, .0375 in Pitch; RoHS: O; PinCount: 5; DigiKeyPartNumber: LP3985IM5-3.0CT-ND; ComponentLink1Description: LP3985 Datasheet; ComponentLink1URL: http://www.national.com/ds/LP/LP3985.pdf; ComponentLink2Description: LP3985 Web Page; ComponentLink2URL: http://www.national.com/pf/LP/LP3985.html; ComponentLink3Description: MF05A Package Page; ComponentLink3URL: http://www.national.com/packaging/folders/mf05a.html
footprint MF05A_N (SOT23, 5-Leads, Body 2.9x1.6mm, Pitch 0.95mm, Lead Span 2.8mm, IPC Medium Density)
footprint MF05A_L (SOT23, 5-Leads, Body 2.9x1.6mm, Pitch 0.95mm, Lead Span 2.8mm, IPC High Density)
footprint MF05A_M (SOT23, 5-Leads, Body 2.9x1.6mm, Pitch 0.95mm, Lead Span 2.8mm, IPC Low Density)
pins: 1 IN (power), 2 GND (power), 3 EN (in), 4 BYP, 5 OUT (power)

## LP3985IM5-3.1
designator U?
Micropower, 150mA Low-Noise Ultra Low-Dropout CMOS Voltage Regulator; PartNumber: LP3985IM5-3.1; Manufacturer: National Semiconductor; CompType: LDO IC; PackageTopMarking: LCZB*XTT; Published: 4-Dec-2008; DatasheetVersion: Aug-2005; PackageVersion: revD, Aug-2008; PackageReference: MF05A; Publisher: Altium Limited; PackageDescription: Molded SOT-23, .115 x .063 x .040 in Body, 5 Lead, .0375 in Pitch; RoHS: Y; PinCount: 5; DigiKeyPartNumber: LP3985IM5-3.1CT-ND; ComponentLink1Description: LP3985 Datasheet; ComponentLink1URL: http://www.national.com/ds/LP/LP3985.pdf; ComponentLink2Description: LP3985 Web Page; ComponentLink2URL: http://www.national.com/pf/LP/LP3985.html; ComponentLink3Description: MF05A Package Page; ComponentLink3URL: http://www.national.com/packaging/folders/mf05a.html
footprint MF05A_N (SOT23, 5-Leads, Body 2.9x1.6mm, Pitch 0.95mm, Lead Span 2.8mm, IPC Medium Density)
footprint MF05A_L (SOT23, 5-Leads, Body 2.9x1.6mm, Pitch 0.95mm, Lead Span 2.8mm, IPC High Density)
footprint MF05A_M (SOT23, 5-Leads, Body 2.9x1.6mm, Pitch 0.95mm, Lead Span 2.8mm, IPC Low Density)
pins: 1 IN (power), 2 GND (power), 3 EN (in), 4 BYP, 5 OUT (power)

## LP3985IM5-3.2
designator U?
Micropower, 150mA Low-Noise Ultra Low-Dropout CMOS Voltage Regulator; PartNumber: LP3985IM5-3.2; Manufacturer: National Semiconductor; CompType: LDO IC; PackageTopMarking: LDPB*XTT; PowerWise: N; Published: 4-Dec-2008; DatasheetVersion: Aug-2005; PackageVersion: revD, Aug-2008; PackageReference: MF05A; Publisher: Altium Limited; PackageDescription: Molded SOT-23, .115 x .063 x .040 in Body, 5 Lead, .0375 in Pitch; RoHS: O; PinCount: 5; DigiKeyPartNumber: LP3985IM5-3.2CT-ND; ComponentLink1Description: LP3985 Datasheet; ComponentLink1URL: http://www.national.com/ds/LP/LP3985.pdf; ComponentLink2Description: LP3985 Web Page; ComponentLink2URL: http://www.national.com/pf/LP/LP3985.html; ComponentLink3Description: MF05A Package Page; ComponentLink3URL: http://www.national.com/packaging/folders/mf05a.html
footprint MF05A_N (SOT23, 5-Leads, Body 2.9x1.6mm, Pitch 0.95mm, Lead Span 2.8mm, IPC Medium Density)
footprint MF05A_L (SOT23, 5-Leads, Body 2.9x1.6mm, Pitch 0.95mm, Lead Span 2.8mm, IPC High Density)
footprint MF05A_M (SOT23, 5-Leads, Body 2.9x1.6mm, Pitch 0.95mm, Lead Span 2.8mm, IPC Low Density)
pins: 1 IN (power), 2 GND (power), 3 EN (in), 4 BYP, 5 OUT (power)

## LP3985IM5-3.3
designator U?
Micropower, 150mA Low-Noise Ultra Low-Dropout CMOS Voltage Regulator; PartNumber: LP3985IM5-3.3; Manufacturer: National Semiconductor; CompType: LDO IC; PackageTopMarking: LDQB*XTT; PowerWise: N; Published: 4-Dec-2008; DatasheetVersion: Aug-2005; PackageVersion: revD, Aug-2008; PackageReference: MF05A; Publisher: Altium Limited; PackageDescription: Molded SOT-23, .115 x .063 x .040 in Body, 5 Lead, .0375 in Pitch; RoHS: O; PinCount: 5; DigiKeyPartNumber: LP3985IM5-3.3CT-ND; ComponentLink1Description: LP3985 Datasheet; ComponentLink1URL: http://www.national.com/ds/LP/LP3985.pdf; ComponentLink2Description: LP3985 Web Page; ComponentLink2URL: http://www.national.com/pf/LP/LP3985.html; ComponentLink3Description: MF05A Package Page; ComponentLink3URL: http://www.national.com/packaging/folders/mf05a.html
footprint MF05A_N (SOT23, 5-Leads, Body 2.9x1.6mm, Pitch 0.95mm, Lead Span 2.8mm, IPC Medium Density)
footprint MF05A_L (SOT23, 5-Leads, Body 2.9x1.6mm, Pitch 0.95mm, Lead Span 2.8mm, IPC High Density)
footprint MF05A_M (SOT23, 5-Leads, Body 2.9x1.6mm, Pitch 0.95mm, Lead Span 2.8mm, IPC Low Density)
pins: 1 IN (power), 2 GND (power), 3 EN (in), 4 BYP, 5 OUT (power)

## LP3985IM5-4.7
designator U?
Micropower, 150mA Low-Noise Ultra Low-Dropout CMOS Voltage Regulator; PartNumber: LP3985IM5-4.7; Manufacturer: National Semiconductor; CompType: LDO IC; PackageTopMarking: LDRB*XTT; PowerWise: N; Published: 4-Dec-2008; DatasheetVersion: Aug-2005; PackageVersion: revD, Aug-2008; PackageReference: MF05A; Publisher: Altium Limited; PackageDescription: Molded SOT-23, .115 x .063 x .040 in Body, 5 Lead, .0375 in Pitch; RoHS: Y; PinCount: 5; DigiKeyPartNumber: LP3985IM5-4.7CT-ND; ComponentLink1Description: LP3985 Datasheet; ComponentLink1URL: http://www.national.com/ds/LP/LP3985.pdf; ComponentLink2Description: LP3985 Web Page; ComponentLink2URL: http://www.national.com/pf/LP/LP3985.html; ComponentLink3Description: MF05A Package Page; ComponentLink3URL: http://www.national.com/packaging/folders/mf05a.html
footprint MF05A_N (SOT23, 5-Leads, Body 2.9x1.6mm, Pitch 0.95mm, Lead Span 2.8mm, IPC Medium Density)
footprint MF05A_L (SOT23, 5-Leads, Body 2.9x1.6mm, Pitch 0.95mm, Lead Span 2.8mm, IPC High Density)
footprint MF05A_M (SOT23, 5-Leads, Body 2.9x1.6mm, Pitch 0.95mm, Lead Span 2.8mm, IPC Low Density)
pins: 1 IN (power), 2 GND (power), 3 EN (in), 4 BYP, 5 OUT (power)

## LP3985IM5-5.0
designator U?
Micropower, 150mA Low-Noise Ultra Low-Dropout CMOS Voltage Regulator; PartNumber: LP3985IM5-5.0; Manufacturer: National Semiconductor; CompType: LDO IC; PackageTopMarking: LDSB*XTT; PowerWise: N; Published: 4-Dec-2008; DatasheetVersion: Aug-2005; PackageVersion: revD, Aug-2008; PackageReference: MF05A; Publisher: Altium Limited; PackageDescription: Molded SOT-23, .115 x .063 x .040 in Body, 5 Lead, .0375 in Pitch; RoHS: O; PinCount: 5; DigiKeyPartNumber: LP3985IM5-5.0CT-ND; ComponentLink1Description: LP3985 Datasheet; ComponentLink1URL: http://www.national.com/ds/LP/LP3985.pdf; ComponentLink2Description: LP3985 Web Page; ComponentLink2URL: http://www.national.com/pf/LP/LP3985.html; ComponentLink3Description: MF05A Package Page; ComponentLink3URL: http://www.national.com/packaging/folders/mf05a.html
footprint MF05A_N (SOT23, 5-Leads, Body 2.9x1.6mm, Pitch 0.95mm, Lead Span 2.8mm, IPC Medium Density)
footprint MF05A_L (SOT23, 5-Leads, Body 2.9x1.6mm, Pitch 0.95mm, Lead Span 2.8mm, IPC High Density)
footprint MF05A_M (SOT23, 5-Leads, Body 2.9x1.6mm, Pitch 0.95mm, Lead Span 2.8mm, IPC Low Density)
pins: 1 IN (power), 2 GND (power), 3 EN (in), 4 BYP, 5 OUT (power)

## LP3985IM5-285
designator U?
Micropower, 150mA Low-Noise Ultra Low-Dropout CMOS Voltage Regulator; PartNumber: LP3985IM5-285; Manufacturer: National Semiconductor; CompType: LDO IC; PackageTopMarking: LCXB*XTT; Published: 4-Dec-2008; DatasheetVersion: Aug-2005; PackageVersion: revD, Aug-2008; PackageReference: MF05A; Publisher: Altium Limited; PackageDescription: Molded SOT-23, .115 x .063 x .040 in Body, 5 Lead, .0375 in Pitch; RoHS: Y; PinCount: 5; DigiKeyPartNumber: LP3985IM5-285CT-ND; ComponentLink1Description: LP3985 Datasheet; ComponentLink1URL: http://www.national.com/ds/LP/LP3985.pdf; ComponentLink2Description: LP3985 Web Page; ComponentLink2URL: http://www.national.com/pf/LP/LP3985.html; ComponentLink3Description: MF05A Package Page; ComponentLink3URL: http://www.national.com/packaging/folders/mf05a.html
footprint MF05A_N (SOT23, 5-Leads, Body 2.9x1.6mm, Pitch 0.95mm, Lead Span 2.8mm, IPC Medium Density)
footprint MF05A_L (SOT23, 5-Leads, Body 2.9x1.6mm, Pitch 0.95mm, Lead Span 2.8mm, IPC High Density)
footprint MF05A_M (SOT23, 5-Leads, Body 2.9x1.6mm, Pitch 0.95mm, Lead Span 2.8mm, IPC Low Density)
pins: 1 IN (power), 2 GND (power), 3 EN (in), 4 BYP, 5 OUT (power)

## LP3985ITL-2.5
designator U?
Micropower, 150mA Low-Noise Ultra Low-Dropout CMOS Voltage Regulator; PartNumber: LP3985ITL-2.5; Manufacturer: National Semiconductor; CompType: LDO IC; PackageTopMarking: XV*I 5; Published: 4-Dec-2008; DatasheetVersion: Aug-2005; PackageVersion: revC, Feb-2005; PackageReference: TLA05AEA; Publisher: Altium Limited; PackageDescription: Thin Micro SMD, 5 Bump (Large), 0.5mm Pitch; RoHS: Y; PinCount: 5; DigiKeyPartNumber: LP3985ITL-2.5CT-ND; ComponentLink1Description: LP3985 Datasheet; ComponentLink1URL: http://www.national.com/ds/LP/LP3985.pdf; ComponentLink2Description: LP3985 Web Page; ComponentLink2URL: http://www.national.com/pf/LP/LP3985.html; ComponentLink3Description: TLA05AEA Package Page; ComponentLink3URL: http://www.national.com/packaging/folders/tla05aea.html
footprint TLA05AEA (Micro SMD, 5-Leads, Body 1.45x1.01mm, Pitch 0.5mm, NSC Recommended)
pins: A1 EN (in), A3 BYP, B2 GND (power), C1 OUT (power), C3 IN (power)

## LP3985ITL-2.6
designator U?
Micropower, 150mA Low-Noise Ultra Low-Dropout CMOS Voltage Regulator; PartNumber: LP3985ITL-2.6; Manufacturer: National Semiconductor; CompType: LDO IC; PackageTopMarking: XV*I 5; Published: 4-Dec-2008; DatasheetVersion: Aug-2005; PackageVersion: revC, Feb-2005; PackageReference: TLA05AEA; Publisher: Altium Limited; PackageDescription: Thin Micro SMD, 5 Bump (Large), 0.5mm Pitch; RoHS: Y; PinCount: 5; DigiKeyPartNumber: LP3985ITL-2.6CT-ND; ComponentLink1Description: LP3985 Datasheet; ComponentLink1URL: http://www.national.com/ds/LP/LP3985.pdf; ComponentLink2Description: LP3985 Web Page; ComponentLink2URL: http://www.national.com/pf/LP/LP3985.html; ComponentLink3Description: TLA05AEA Package Page; ComponentLink3URL: http://www.national.com/packaging/folders/tla05aea.html
footprint TLA05AEA (Micro SMD, 5-Leads, Body 1.45x1.01mm, Pitch 0.5mm, NSC Recommended)
pins: A1 EN (in), A3 BYP, B2 GND (power), C1 OUT (power), C3 IN (power)

## LP3985ITL-2.7
designator U?
Micropower, 150mA Low-Noise Ultra Low-Dropout CMOS Voltage Regulator; PartNumber: LP3985ITL-2.7; Manufacturer: National Semiconductor; CompType: LDO IC; PackageTopMarking: XV*I 5; Published: 4-Dec-2008; DatasheetVersion: Aug-2005; PackageVersion: revC, Feb-2005; PackageReference: TLA05AEA; Publisher: Altium Limited; PackageDescription: Thin Micro SMD, 5 Bump (Large), 0.5mm Pitch; RoHS: Y; PinCount: 5; DigiKeyPartNumber: LP3985ITL-2.7CT-ND; ComponentLink1Description: LP3985 Datasheet; ComponentLink1URL: http://www.national.com/ds/LP/LP3985.pdf; ComponentLink2Description: LP3985 Web Page; ComponentLink2URL: http://www.national.com/pf/LP/LP3985.html; ComponentLink3Description: TLA05AEA Package Page; ComponentLink3URL: http://www.national.com/packaging/folders/tla05aea.html
footprint TLA05AEA (Micro SMD, 5-Leads, Body 1.45x1.01mm, Pitch 0.5mm, NSC Recommended)
pins: A1 EN (in), A3 BYP, B2 GND (power), C1 OUT (power), C3 IN (power)